# Altium schematic symbol library ACS712.SchLib: 1 symbol
Pins are listed as number, name and electrical type; pins without a type are passive.

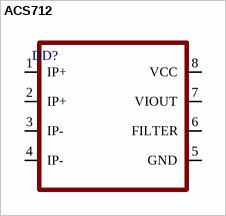
[diagram p0: symbol ACS712]

## ACS712
designator DD?
footprint SO8-150
pins: 1 IP+, 2 IP+, 3 IP-, 4 IP-, 5 GND, 6 FILTER, 7 VIOUT, 8 VCC